# Altium footprint library PJ-321B.PcbLib: 1 footprints
Each footprint in its own frame and in the unit in brackets; x right, y up, seen from the top. Pads: shape width x height; smd on the part's side, far side on the other; paste and mask are expansions set on the pad; w line width, h text height; cw(c..) or ccw(c..) is an arc to the next point about the centre after c.
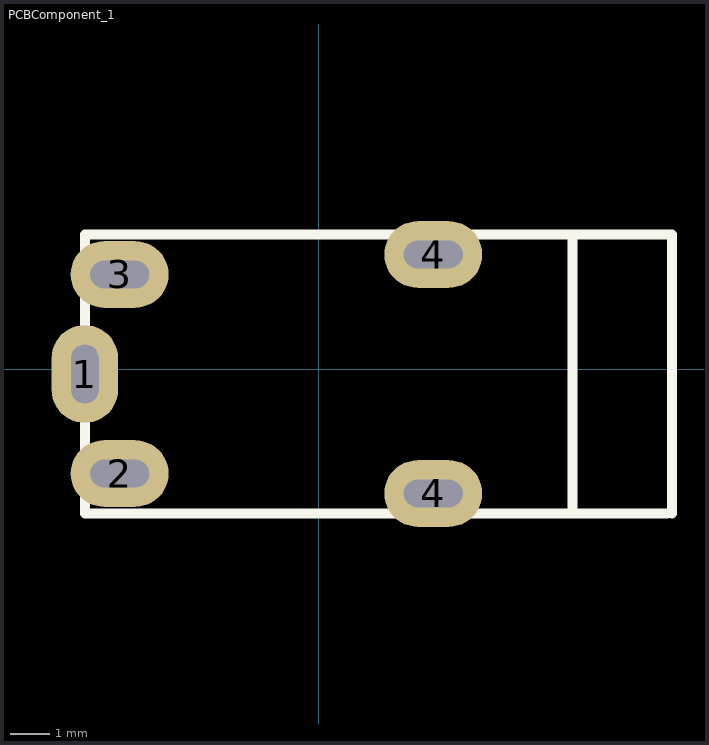
[diagram p0: the footprint, top view; thin cyan lines are the x and y axes]

## PCBComponent_1 [mm]
pads (5):
  oval 1.7x2.5 hole 0.7 slot 1.5 at 90 deg: 1(-5.969,-0.127)
  oval 2.5x1.7 hole 0.7 slot 1.5 at 0 deg: 2(-5.08,-2.667) 3(-5.08,2.413) 4(2.921,-3.175) 4(2.921,2.921)
Top Overlay:
  lines w0.254: 8.89,-3.683 6.477,-3.683 ; 9.017,-3.683 9.017,3.429 6.477,3.429 ; 6.477,-3.683 -5.969,-3.683 -5.969,3.429 6.477,3.429 ; 6.477,-3.683 6.477,3.429